# Altium footprint library PowerResistors.PcbLib: 1 footprints
Each footprint in its own frame and in the unit in brackets; x right, y up, seen from the top. Pads: shape width x height; smd on the part's side, far side on the other; paste and mask are expansions set on the pad; w line width, h text height; cw(c..) or ccw(c..) is an arc to the next point about the centre after c.
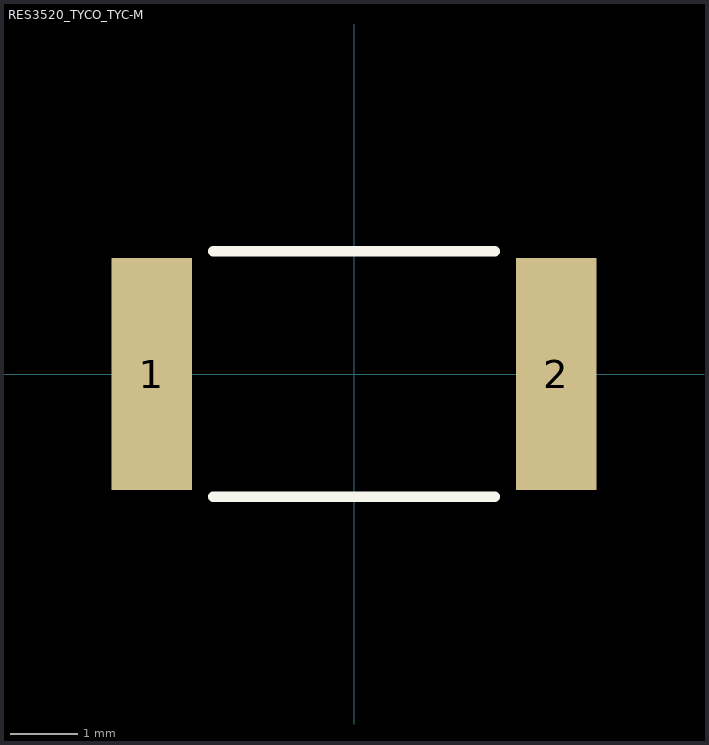
[diagram p0: the footprint, top view; thin cyan lines are the x and y axes]

## RES3520_TYCO_TYC-M [mil]
pads (2):
  rect 47x136 smd paste+0 mask+0: 1(-118.5,0) 2(118.5,0)
Top Overlay:
  lines w6: -82.53,-72 82.53,-72 ; -82.53,72 82.53,72
3D body "c-3-1622820-1-ba-3d.stp": height 24.81, standoff 1.19, extent -125.98,-62.99 125.98,63